# Altium schematic symbol library LSM6DS3.Schlib: 1 symbol
Pins are listed as number, name and electrical type; pins without a type are passive.

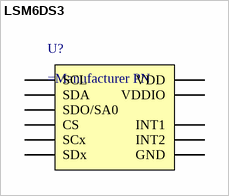
[diagram p0: symbol LSM6DS3]

## LSM6DS3
designator U?
pins: 1 SDO/SA0, 2 SDx, 3 SCx, 4 INT1, 5 VDDIO (power), 6 GND (power), 7 GND hidden, 8 VDD (power), 9 INT2, 10 NC hidden, 11 NC hidden, 12 CS, 13 SCL, 14 SDA